# Altium footprint library DFN1006-2.PcbLib: 1 footprints
Each footprint in its own frame and in the unit in brackets; x right, y up, seen from the top. Pads: shape width x height; smd on the part's side, far side on the other; paste and mask are expansions set on the pad; w line width, h text height; cw(c..) or ccw(c..) is an arc to the next point about the centre after c.
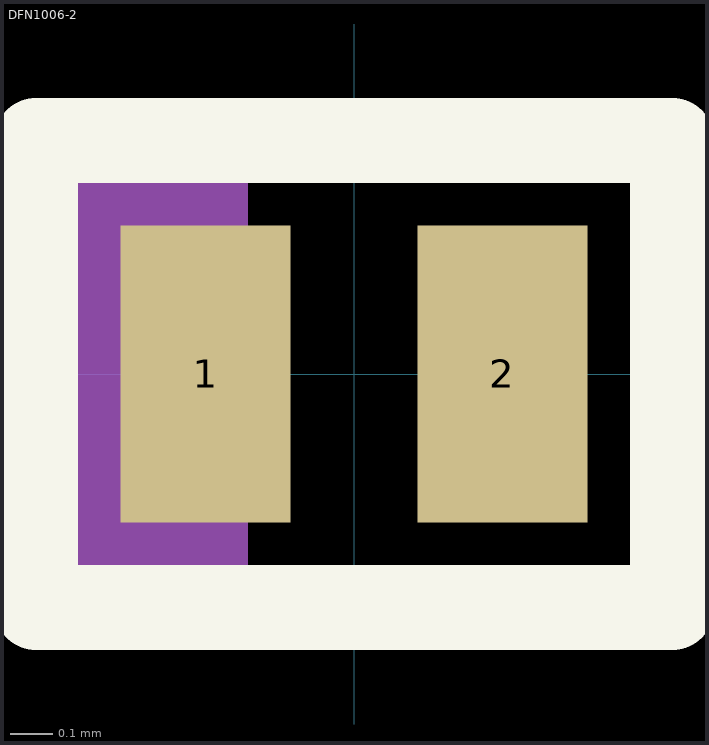
[diagram p0: the footprint, top view; thin cyan lines are the x and y axes]

## DFN1006-2 [mm]
height 0.55
pads (2):
  rect 0.4x0.7 smd: 1(-0.35,0) 2(0.35,0)
Top Overlay:
  lines w0.2: -0.75,-0.55 -0.75,0.55 0.75,0.55 0.75,-0.55 -0.75,-0.55
Top Assembly:
  rectangle: -0.75,-0.55 -0.25,0.55
  lines w0.1: -0.75,-0.55 -0.75,0.55 0.75,0.55 0.75,-0.55 -0.75,-0.55
  text "'.Designator'" at -3.965,-0.292 h0.7
3D body "User Library-DFN1006-2.step": height 0.48, standoff -0.02, extent -0.5,-0.3 0.5,0.3